# EAGLE library part ARDUINO_NANO (library arduino_nano)
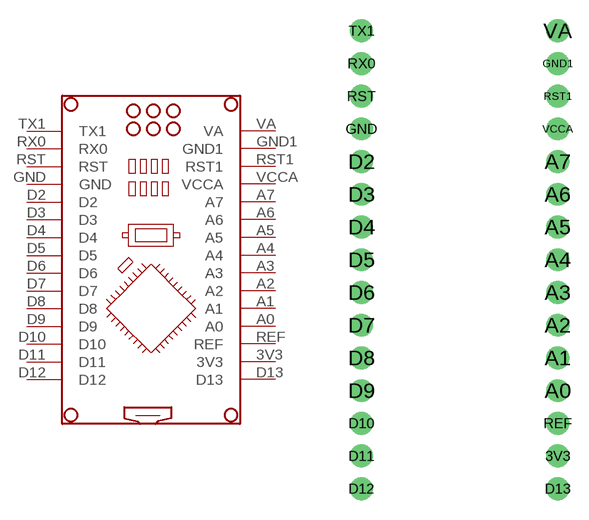
[diagram p0: symbol with the pads of ARDUINO_NANO; footprint ARDUINO_NANO]

Designator prefix -

## ARDUINO_NANO  [ARDUINO_NANO]
3V3  3V3
A0  A0
A1  A1
A2  A2
A3  A3
A4  A4
A5  A5
A6  A6
A7  A7
D2  D2
D3  D3
D4  D4
D5  D5
D6  D6
D7  D7
D8  D8
D9  D9
D10  D10
D11  D11
D12  D12
D13  D13
GND  GND
GND1  GND1
REF  REF
RST  RST
RST1  RST1
RX0  RX0
TX1  TX1
VA  VA
VCCA  VCCA

## Footprint ARDUINO_NANO (pad centres in mm)
drill 1 pad 1.778: 3V3 7.874,2.794; A0 7.874,7.874; A1 7.874,10.414; A2 7.874,12.954; A3 7.874,15.494; A4 7.874,18.034; A5 7.874,20.574; A6 7.874,23.114; A7 7.874,25.654; D2 -7.366,25.654; D3 -7.366,23.114; D4 -7.366,20.574; D5 -7.366,18.034; D6 -7.366,15.494; D7 -7.366,12.954; D8 -7.366,10.414; D9 -7.366,7.874; D10 -7.366,5.334; D11 -7.366,2.794; D12 -7.366,0.254; D13 7.874,0.254; GND -7.366,28.194; GND1 7.874,33.274; REF 7.874,5.334; RST -7.366,30.734; RST1 7.874,30.734; RX0 -7.366,33.274; TX1 -7.366,35.814; VA 7.874,35.814; VCCA 7.874,28.194